# Altium footprint library Sheye-Others.PcbLib: 30 footprints (part 2 of 2)
Each footprint in its own frame and in the unit in brackets; x right, y up, seen from the top. Pads: shape width x height; smd on the part's side, far side on the other; paste and mask are expansions set on the pad; w line width, h text height; cw(c..) or ccw(c..) is an arc to the next point about the centre after c.
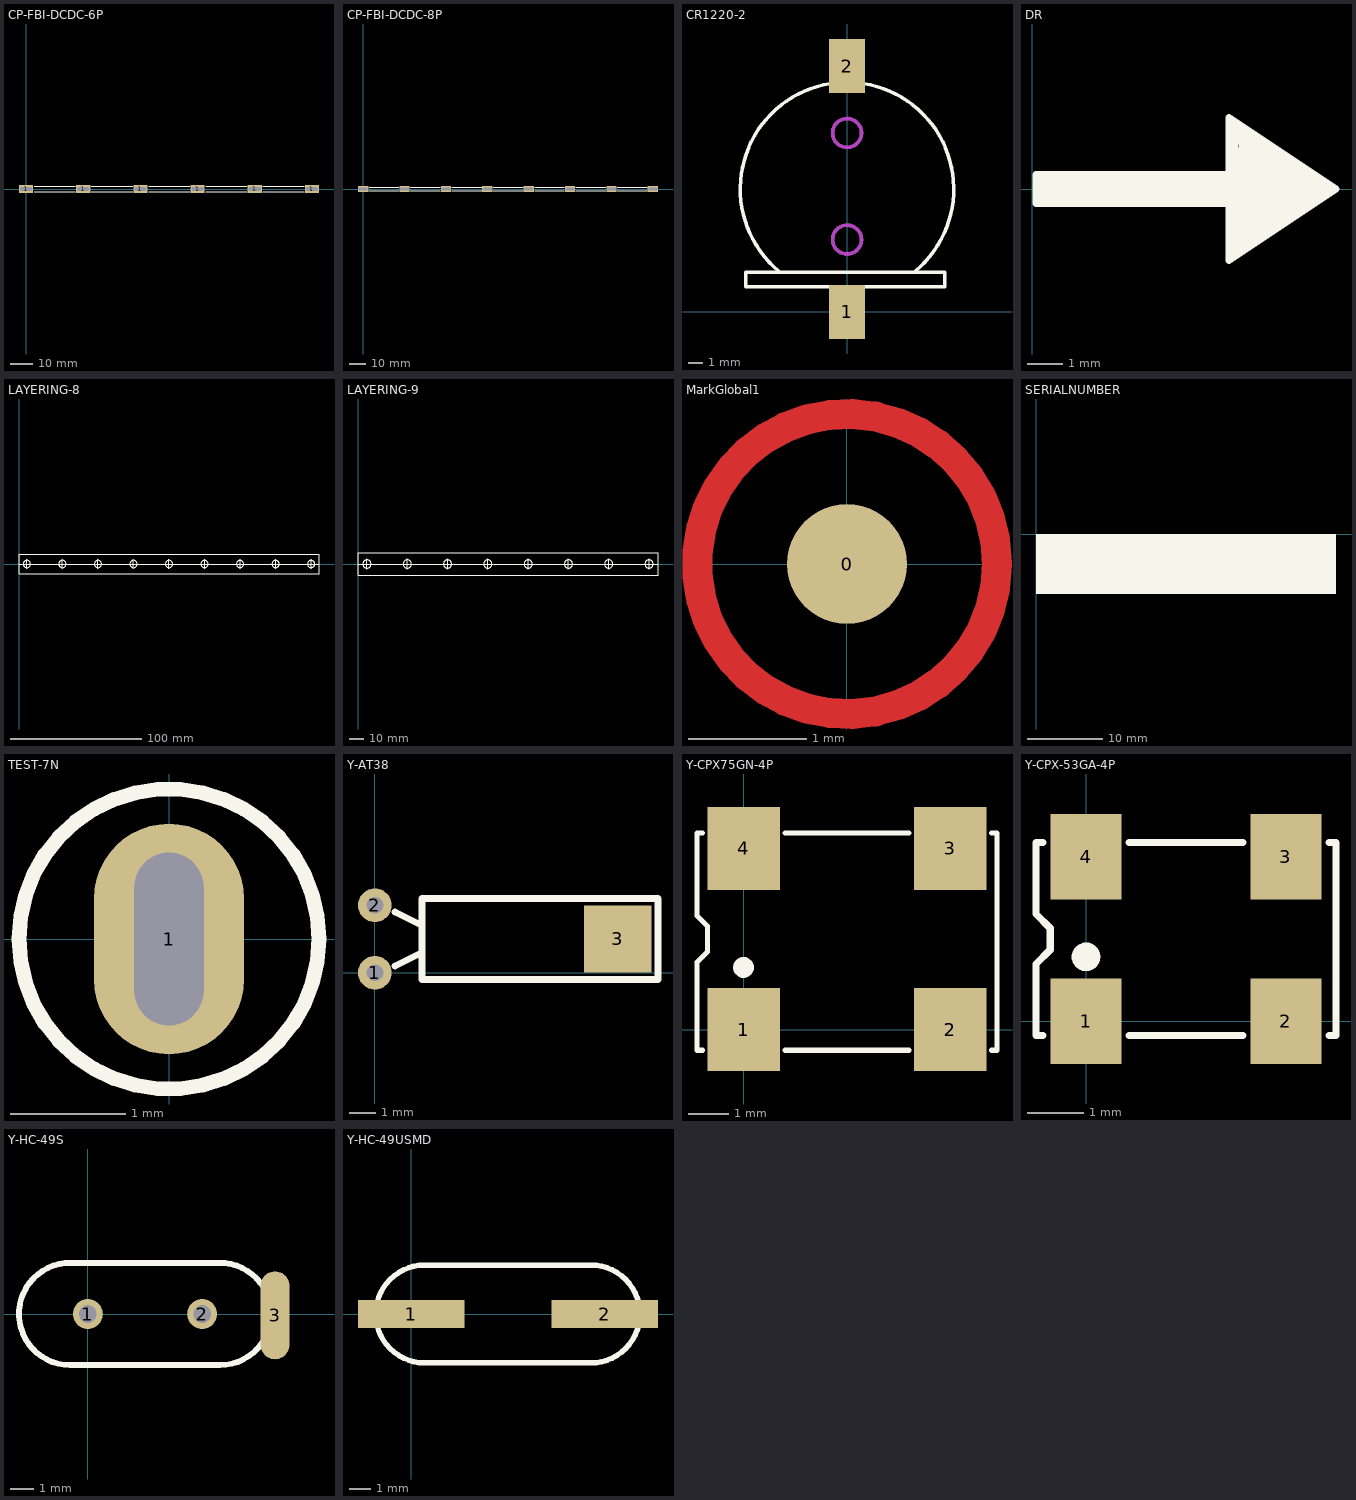
[diagram p1: the footprints below, top view; thin cyan lines are the x and y axes]

## CP-FBI-DCDC-6P [mm]
pads (6):
  rect 6.2x3.4 hole 1.7 slot 5.2 at 0 deg: 1(0,0) 1(25,0) 1(50,0) 1(75,0) 1(100,0) 1(125,0)
Top Overlay:
  lines w0.254: 28.556,-1.143 46.59,-1.143 ; 28.556,1.143 46.59,1.143 ; 53.556,-1.143 71.59,-1.143 ; 53.556,1.143 71.59,1.143 ; 78.556,-1.143 96.59,-1.143 ; 78.556,1.143 96.59,1.143 ; 103.556,-1.143 121.59,-1.143 ; 103.556,1.143 121.59,1.143 ; 3.556,-1.143 21.59,-1.143 3.556,-1.143 ; 3.556,1.143 21.59,1.143 3.556,1.143
3D body: height 20, standoff 1, extent -2.032,-0.762 126.873,0.762
3D body: height 1, standoff -3, extent -2.032,-0.762 2.032,0.762
3D body: height 1, standoff -3, extent 22.968,-0.762 27.032,0.762
3D body: height 1, standoff -3, extent 47.968,-0.762 52.032,0.762
3D body: height 1, standoff -3, extent 72.968,-0.762 77.032,0.762
3D body: height 1, standoff -3, extent 97.968,-0.762 102.032,0.762
3D body: height 1, standoff -3, extent 122.968,-0.762 127.032,0.762

## CP-FBI-DCDC-8P [mm]
pads (8):
  rect 6.2x3.4 hole 1.7 slot 5.2 at 0 deg: 1(0,0) 1(25,0) 1(50,0) 1(75,0) 1(100,0) 1(125,0) 1(150,0) 1(175,0)
Top Overlay:
  lines w0.254: 28.556,-1.143 46.59,-1.143 ; 28.556,1.143 46.59,1.143 ; 53.556,-1.143 71.59,-1.143 ; 53.556,1.143 71.59,1.143 ; 78.556,-1.143 96.59,-1.143 ; 78.556,1.143 96.59,1.143 ; 103.556,-1.143 121.59,-1.143 ; 103.556,1.143 121.59,1.143 ; 128.556,-1.143 146.59,-1.143 ; 128.556,1.143 146.59,1.143 ; 153.556,-1.143 171.59,-1.143 ; 153.556,1.143 171.59,1.143 ; 3.556,-1.143 21.59,-1.143 3.556,-1.143 ; 3.556,1.143 21.59,1.143 3.556,1.143
3D body: height 20, standoff 1, extent -2.032,-0.762 177.038,0.762
3D body: height 1, standoff -3, extent -2.032,-0.762 2.032,0.762
3D body: height 1, standoff -3, extent 22.968,-0.762 27.032,0.762
3D body: height 1, standoff -3, extent 47.968,-0.762 52.032,0.762
3D body: height 1, standoff -3, extent 72.968,-0.762 77.032,0.762
3D body: height 1, standoff -3, extent 97.968,-0.762 102.032,0.762
3D body: height 1, standoff -3, extent 122.968,-0.762 127.032,0.762
3D body: height 1, standoff -3, extent 147.968,-0.762 152.032,0.762
3D body: height 1, standoff -3, extent 172.968,-0.762 177.032,0.762

## CR1220-2 [mil]
pads (2):
  rect 100x150 smd: 1(0,0) 2(0,680)
Top Overlay:
  lines w10: -189.8,113.81 cw(c0,340) 189.8,113.81 ; -280,70 270,70 270,110 -280,110 -280,70
Keep-Out Layer:
  circle w10: c0,200 r40
  circle w10: c0,495 r40
Mechanical 1:
  circle w10: c0,495 r40
  circle w10: c0,200 r40
3D body: height 194.49, standoff 0, extent -293.42,-19.17 297,709.17

## DR [mm]
Top Overlay:
  lines w0.2: 0.5,-0.4 0.1,-0.4 0.1,0.4 0.5,0.4 ; 5.646,-1.903 5.687,1.876 ; 5.844,-1.771 5.882,1.745 ; 6.063,1.624 6.015,-1.657 8.16,0.005 6.06,1.404 6.2,-1.513 8.035,0.088 6.189,-1.278 ; 6.092,1.605 8.321,-0.12 ; 5.5,-2 8.5,0 5.5,2 5.5,-1 5.5,-2
  lines w0.5: 6.189,-1.278 6.373,1.195 7.814,-0.076 6.5,-1 ; 6.5,-1 6.5,1 7.5,0 ; 6.5,-1 7.5,0 ; 6.5,-1 6.5,0 7.5,0
  lines w1: 0.5,0 2.5,0 6.5,0

## LAYERING-8 [mm]
Top Overlay:
  circle w0.254: c6,0 r2.75
  circle w0.254: c33,0 r2.75
  circle w0.254: c60,0 r2.75
  circle w0.254: c87,0 r2.75
  circle w0.254: c114,0 r2.75
  circle w0.254: c141,0 r2.75
  circle w0.254: c168,0 r2.75
  circle w0.254: c195,0 r2.75
  circle w0.254: c222,0 r2.75
  lines w0.254: 0,0 228,0 ; 6,-3.555 6,3.445 ; 33,-3.5 33,3.5 ; 60,-3.5 60,3.5 ; 87,-3.5 87,3.5 ; 114,-3.5 114,3.5 ; 141,-3.5 141,3.5 ; 168,-3.5 168,3.5 ; 195,-3.5 195,3.5 ; 222,-3.5 222,3.5 ; 0,-7.5 228,-7.5 228,7.5 0,7.5 0,-7.5

## LAYERING-9 [mm]
Top Overlay:
  circle w0.254: c6,0 r2.75
  circle w0.254: c33,0 r2.75
  circle w0.254: c60,0 r2.75
  circle w0.254: c87,0 r2.75
  circle w0.254: c114,0 r2.75
  circle w0.254: c141,0 r2.75
  circle w0.254: c168,0 r2.75
  circle w0.254: c195,0 r2.75
  lines w0.254: 0,0 201,0 ; 6,-3.555 6,3.445 ; 33,-3.5 33,3.5 ; 60,-3.5 60,3.5 ; 87,-3.5 87,3.5 ; 114,-3.5 114,3.5 ; 141,-3.5 141,3.5 ; 168,-3.5 168,3.5 ; 195,-3.5 195,3.5 ; 0,-7.5 201,-7.5 201,7.5 0,7.5 0,-7.5

## MarkGlobal1 [mil]
pads (1):
  round 40 smd: 0(0.1,0.1)
Top Layer:
  circle w10: c0.1,0.1 r50
Top Solder:
  circle w20: c0.1,0.1 r30

## SERIALNUMBER [mm]
Top Overlay:
  rectangle: 0,-8 40,0

## TEST-7N [mm]
pads (1):
  oval 1.3x2 hole 0.6 slot 1.5 at 90 deg: 1(0,0)
Top Overlay:
  circle w0.127: c0,0 r1.3
3D body: height 3, standoff 0, extent -1.494,-1.495 1.494,1.499
3D body: height 3.2, standoff 3, extent -0.254,-1.016 0.254,1.016
3D body: height 5.2, standoff 5, extent -0.254,-1.016 0.254,1.016
3D body: height 5.2, standoff 3, extent -0.254,0.762 0.254,1.016
3D body: height 5.2, standoff 3, extent -0.254,-1.016 0.254,-0.762

## Y-AT38 [mil] "XTAL-AT38"
pads (3):
  round 50 hole 25: 1(0,0) 2(0,100)
  rect 100x100 smd: 3(360,50)
Top Overlay:
  lines w10: 30,10 70,30 ; 30,90 70,70 ; 70,-10 420,-10 420,110 70,110 70,-10
3D body: height 122.99, standoff -2.99, extent -16,-17.91 408.21,117.91

## Y-CPX75GN-4P [mil] "5.0x3.2x0.8-4P"
height 31.5
pads (4):
  rect 70x80 smd: 1(0,0) 2(200,0) 3(200,175) 4(0,175)
Top Overlay:
  circle w10: c0,60 r5
  lines w5: -40,-20 -45,-20 -45,65 -35,75 -35,100 -45,110 -45,190 -40,190 ; 40,-20 160,-20 ; 40,190 160,190 ; 240,-20 245,-20 245,190 240,190
3D body: height -19.61, standoff -79.45, extent -37.8,-11.85 237.8,185

## Y-CPX-53GA-4P [mil] "5.0x3.2x0.8-4P"
height 31.5
pads (4):
  rect 50x60 smd: 1(0,0) 2(140,0) 3(140,115) 4(0,115)
Top Overlay:
  circle w10: c0,45 r5
  lines w5: -30,-10 -35,-10 -35,40 -25,50 -25,65 -35,75 -35,125 -30,125 ; 30,-10 110,-10 ; 30,125 110,125 ; 170,-10 175,-10 175,125 170,125
3D body: height 47.07, standoff 3.88, extent -28.43,-5 168.43,120.98

## Y-HC-49S [mm] "XTAL-HC-49S"
pads (3):
  round 1.3 hole 0.762: 1(0,0) 2(4.953,0)
  oval 1.27x3.81 smd: 3(8.105,-0.055)
Top Overlay:
  lines w0.254: -0.757,2.215 5.677,2.215 cw(c5.717,0) 5.717,-2.215 ; -0.724,2.215 ccw(c-0.764,0) -0.764,-2.215 5.697,-2.215
3D body: height 3.5, standoff -4, extent -3.197,-2.339 8.153,2.311

## Y-HC-49USMD [mm] "Craystal_SMD"
pads (2):
  rect 5x1.3 smd: 1(0,0) 2(9.1,0)
Top Overlay:
  lines w0.254: 0.451,-2.3 8.579,-2.3 ; 0.451,2.3 8.579,2.3 ; 0.635,-2.3 cw(c0.635,0) 0.635,2.3 ; 8.452,-2.3 ccw(c8.452,0) 8.452,2.3
3D body: height 4.2, standoff 0, extent -1.803,-2.337 10.897,2.363